# EAGLE library part BC857BV (library joakim)
PNP double transistor in a SOT666 plastic package. NPN complement: BC847BV. AAL Eindhoven MK
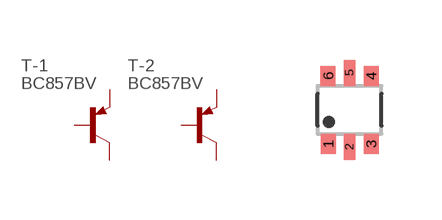
[diagram p36: symbol with the pads of SOT666J; footprint SOT666J]

Designator prefix T; gates -1=PNP-1 -2=PNP-1

## BC857BV  [SOT666J]
1  -1:E  pas
2  -1:B  pas
3  -2:C  pas
4  -2:E  pas
5  -2:B  pas
6  -1:C  pas

## Footprint SOT666J (pad centres in mm)
SOT 666 Reflow soldering foorprint Source: Philips - BAS70_1PS7XSB70_SER_8.pdf
smd 0.375 x 0.5: 1 -0.537,-0.85; 3 0.538,-0.85; 4 0.538,0.85; 6 -0.538,0.85
smd 0.3 x 0.65: 2 0,-0.925; 5 0,0.925